# Altium footprint library custom-case.PcbLib: 168 footprints (part 4 of 11)
Each footprint in its own frame and in the unit in brackets; x right, y up, seen from the top. Pads: shape width x height; smd on the part's side, far side on the other; paste and mask are expansions set on the pad; w line width, h text height; cw(c..) or ccw(c..) is an arc to the next point about the centre after c.
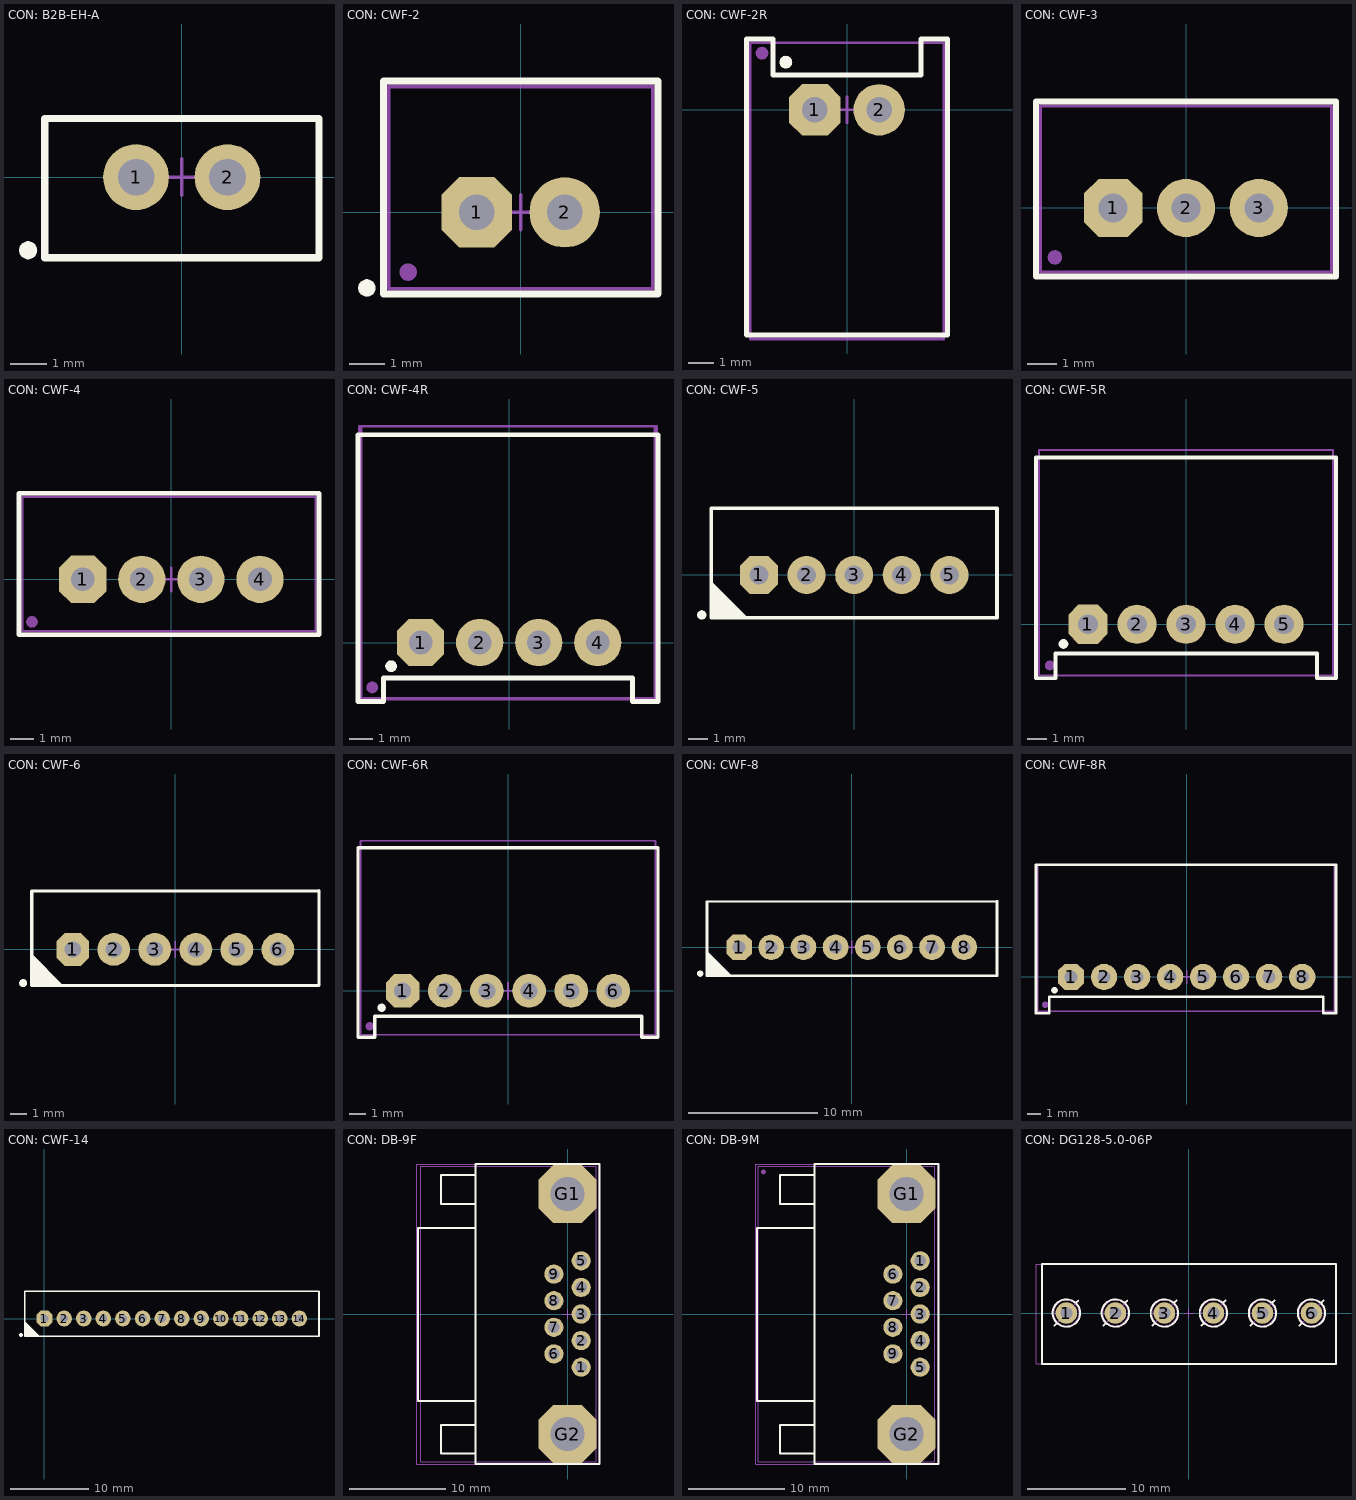
[diagram p3: the footprints below, top view; thin cyan lines are the x and y axes]

## CON: B2B-EH-A [mm]
pads (3):
  round 1.8 hole 1: 1(-1.25,0) 2(1.25,0)
  round 0.5 on Top Overlay: ""(-4.2,-2)
Top Overlay:
  lines w0.2: -3.75,-2.2 3.75,-2.2 3.75,1.6 -3.75,1.6 -3.75,-2.2
Top Assy:
  lines w0.1: -3.75,-2.2 3.75,-2.2 3.75,1.6 -3.75,1.6 -3.75,-2.2
Size Area:
  lines w0.1: -0.5,0 0.5,0 ; 0,-0.5 0,0.5 ; -3.75,-2.2 3.75,-2.2 3.75,1.6 -3.75,1.6 -3.75,-2.2
3D body "User Library-B2B-EH-A.STEP": height 6.05, standoff -3.15, extent -3.75,-2.2 3.75,1.6

## CON: CWF-2 [mm]
height 7.7
pads (4):
  oct 2x2 hole 1: 1(-1.25,0)
  round 2 hole 1: 2(1.25,0)
  round 0.5 on Top Overlay: ""(-4.375,-2.15)
  round 0.5 on Mech1: ""(-3.2,-1.7)
Top Overlay:
  lines w0.2: -3.9,-2.325 3.9,-2.325 3.9,3.725 -3.9,3.725 -3.9,-2.325
Top Assy:
  lines w0.1: -3.75,-2.175 -3.75,3.575 3.75,3.575 3.75,-2.175 -3.75,-2.175
Size Area:
  lines w0.1: -0.5,0 0.5,0 ; 0,-0.5 0,0.5 ; -3.9,-2.325 3.9,-2.325 3.9,3.725 -3.9,3.725 -3.9,-2.325
3D body "CWF-2.step": height 7, standoff -3.5, extent -3.75,-2.175 3.75,3.575

## CON: CWF-2R [mm]
height 7.7
pads (4):
  oct 2x2 hole 1: 1(-1.25,0)
  round 2 hole 1: 2(1.25,0)
  round 0.5 on Mech1: ""(-3.3,2.2)
  round 0.5 on Top Overlay: ""(-2.375,1.85)
Top Overlay:
  lines w0.2: -3.9,-8.75 3.9,-8.75 3.9,2.75 2.875,2.75 2.875,1.35 -2.875,1.35 -2.875,2.75 -3.9,2.75 -3.9,-8.75
Top Assy:
  lines w0.1: -3.75,-8.9 -3.75,2.6 3.75,2.6 3.75,-8.9 -3.75,-8.9
Size Area:
  lines w0.1: -0.5,0 0.5,0 ; 0,-0.5 0,0.5 ; -3.9,-8.75 -3.9,2.75 -2.875,2.75 -2.875,1.35 2.875,1.35 2.875,2.75 3.9,2.75 3.9,-8.75 -3.9,-8.75
3D body "User Library-DS1069-2 CWF-2R.STEP": height 5.85, standoff -3.4, extent -3.75,-8.9 3.75,2.6

## CON: CWF-3 [mm]
height 7.7
pads (4):
  oct 2x2 hole 1: 1(-2.5,0)
  round 2 hole 1: 2(0,0) 3(2.5,0)
  round 0.5 on Mech1: ""(-4.5,-1.7)
Top Overlay:
  lines w0.2: -5.15,-2.35 5.15,-2.35 5.15,3.65 -5.15,3.65 -5.15,-2.35
Top Assy:
  lines w0.1: -5,-2.2 -5,3.5 5,3.5 5,-2.2 -5,-2.2
Size Area:
  lines w0.1: -0.5,0 0.5,0 ; 0,-0.5 0,0.5 ; -5.15,-2.35 5.15,-2.35 5.15,3.65 -5.15,3.65 -5.15,-2.35
3D body "CWF-3.step": height 7, standoff -3.5, extent -5,-2.2 5,3.55

## CON: CWF-4 [mm]
height 7.7
pads (5):
  oct 2x2 hole 1: 1(-3.75,0)
  round 2 hole 1: 2(-1.25,0) 3(1.25,0) 4(3.75,0)
  round 0.5 on Mech1: ""(-5.9,-1.8)
Top Overlay:
  lines w0.2: -6.45,-2.35 -6.45,3.65 6.25,3.65 6.25,-2.35 -6.45,-2.35
Top Assy:
  lines w0.1: -6.3,-2.2 6.1,-2.2 6.1,3.5 -6.3,3.5 -6.3,-2.2
Size Area:
  lines w0.1: -0.5,0 0.5,0 ; 0,-0.5 0,0.5 ; -6.45,-2.35 -6.45,3.65 6.25,3.65 6.25,-2.35 -6.45,-2.35
3D body "CWF-4.step": height 7, standoff -3.5, extent -6.267,-2.194 6.133,3.556

## CON: CWF-4R [mm]
pads (6):
  oct 2x2 hole 1: 1(-3.75,0)
  round 2 hole 1: 2(-1.25,0) 3(1.25,0) 4(3.75,0)
  round 0.5 on Mech1: ""(-5.8,-1.9)
  round 0.5 on Top Overlay: ""(-5,-1)
Top Overlay:
  lines w0.2: -6.4,-2.5 -6.4,8.8 6.3,8.8 6.3,-2.5 5.225,-2.5 5.225,-1.5 -5.325,-1.5 -5.325,-2.5 -6.4,-2.5
Top Assy:
  lines w0.1: -6.25,-2.35 -6.25,9.15 6.15,9.15 6.15,-2.35 -6.25,-2.35
Size Area:
  lines w0.1: -6.35,-2.4 -6.35,9.15 6.25,9.15 6.25,-2.4 -6.35,-2.4
3D body "User Library-DS1069-4 MR TypeA.STEP": height 5.8, standoff -3.35, extent -6.25,-2.35 6.15,9.15

## CON: CWF-5 [mm]
pads (6):
  oct 2x2 hole 1: 1(-5,0)
  round 2 hole 1: 2(-2.5,0) 3(0,0) 4(2.5,0) 5(5,0)
  round 0.5 on Top Overlay: ""(-8,-2.1)
Top Overlay:
  region: -5.575,-2.25 -7.5,-0.325 -7.5,-2.25
  lines w0.2: -7.5,-2.25 -7.5,3.5 7.5,3.5 7.5,-2.25 -7.5,-2.25
Top Assy:
  lines w0.1: -7.5,-2.25 -7.5,3.5 7.5,3.5 7.5,-2.25 -7.5,-2.25
Size Area:
  lines w0.1: -0.5,0 0.5,0 ; 0,-0.5 0,0.5 ; -7.5,-2.25 -7.5,3.5 7.5,3.5 7.5,-2.25 -7.5,-2.25
3D body "User Library-CWF-5.STEP": height 7.05, standoff -3.45, extent -7.5,-2.25 7.5,3.5

## CON: CWF-5R [mm]
pads (7):
  oct 2x2 hole 1: 1(-5,0)
  round 2 hole 1: 2(-2.5,0) 3(0,0) 4(2.5,0) 5(5,0)
  round 0.5 on Mech1: ""(-6.95,-2.1)
  round 0.5 on Top Overlay: ""(-6.25,-1)
Top Overlay:
  lines w0.2: -7.65,-2.75 -7.65,8.5 7.65,8.5 7.65,-2.75 6.675,-2.75 6.675,-1.5 -6.65,-1.5 -6.65,-2.75 -7.65,-2.75
Top Assy:
  lines w0.1: -7.5,-2.6 7.5,-2.6 7.5,8.9 -7.5,8.9 -7.5,-2.6
Size Area:
  lines w0.1: -0.5,0 0.5,0 ; 0,-0.5 0,0.5 ; -7.5,-2.6 -7.5,8.9 7.5,8.9 7.5,-2.6 -7.5,-2.6
3D body "User Library-DS1069-5 CWF-5R.STEP": height 5.75, standoff -3.5, extent -7.5,-2.62 7.5,8.88

## CON: CWF-6 [mm]
pads (7):
  oct 2x2 hole 1: 1(-6.25,0)
  round 2 hole 1: 2(-3.75,0) 3(-1.25,0) 4(1.25,0) 5(3.75,0) 6(6.25,0)
  round 0.5 on Top Overlay: ""(-9.275,-2.05)
Top Overlay:
  region: -6.825,-2.2 -8.75,-0.275 -8.75,-2.2
  lines w0.2: -8.75,-2.2 -8.75,3.55 8.75,3.575 8.75,-2.2 -8.75,-2.2
Top Assy:
  lines w0.1: -8.75,-2.2 -8.75,3.55 8.75,3.575 8.75,-2.2 -8.75,-2.2
Size Area:
  lines w0.1: -0.5,0 0.5,0 ; 0,-0.5 0,0.5 ; -8.75,-2.2 -8.75,3.55 8.75,3.575 8.75,-2.2 -8.75,-2.2
3D body "User Library-CWF-6.STEP": height 7.05, standoff -3.45, extent -8.75,-2.2 8.75,3.55

## CON: CWF-6R [mm]
pads (8):
  oct 2x2 hole 1: 1(-6.25,0)
  round 2 hole 1: 2(-3.75,0) 3(-1.25,0) 4(1.25,0) 5(3.75,0) 6(6.25,0)
  round 0.5 on Mech1: ""(-8.2,-2.1)
  round 0.5 on Top Overlay: ""(-7.5,-1)
Top Overlay:
  lines w0.2: -8.9,-2.75 -8.9,8.5 8.9,8.5 8.9,-2.75 7.925,-2.75 7.925,-1.5 -7.9,-1.5 -7.9,-2.75 -8.9,-2.75
Top Assy:
  lines w0.1: -8.75,-2.6 8.75,-2.6 8.75,8.9 -8.75,8.9 -8.75,-2.6
Size Area:
  lines w0.1: -0.5,0 0.5,0 ; 0,-0.5 0,0.5 ; -8.75,-2.6 -8.75,8.9 8.75,8.9 8.75,-2.6 -8.75,-2.6
3D body "User Library-DS1069-6 CWF-6R.STEP": height 5.85, standoff -3.4, extent -8.75,-2.6 8.75,8.9

## CON: CWF-8 [mm]
pads (9):
  oct 2x2 hole 1: 1(-8.75,0)
  round 2 hole 1: 2(-6.25,0) 3(-3.75,0) 4(-1.25,0) 5(1.25,0) 6(3.75,0) 7(6.25,0) 8(8.75,0)
  round 0.5 on Top Overlay: ""(-11.775,-2.05)
Top Overlay:
  region: -9.325,-2.2 -11.25,-0.275 -11.25,-2.2
  lines w0.2: -11.25,-2.2 -11.25,3.55 11.3,3.582 11.3,-2.2 -11.25,-2.2
Top Assy:
  lines w0.1: -11.25,-2.2 -11.25,3.55 11.3,3.582 11.3,-2.2 -11.25,-2.2
Size Area:
  lines w0.1: -0.5,0 0.5,0 ; 0,-0.5 0,0.5 ; -11.25,-2.2 -11.25,3.55 11.3,3.582 11.3,-2.2 -11.25,-2.2
3D body "User Library-DS1069-8 CWF-8.STEP": height 7.1, standoff -3.4, extent -11.25,-2.2 11.25,3.55

## CON: CWF-8R [mm]
pads (10):
  oct 2x2 hole 1: 1(-8.75,0)
  round 2 hole 1: 2(-6.25,0) 3(-3.75,0) 4(-1.25,0) 5(1.25,0) 6(3.75,0) 7(6.25,0) 8(8.75,0)
  round 0.5 on Mech1: ""(-10.7,-2.1)
  round 0.5 on Top Overlay: ""(-10,-1)
Top Overlay:
  lines w0.2: -11.4,-2.75 -11.4,8.5 11.312,8.5 11.312,-2.75 10.338,-2.75 10.338,-1.5 -10.4,-1.5 -10.4,-2.75 -11.4,-2.75
Top Assy:
  lines w0.1: -11.25,-2.6 11.162,-2.6 11.162,8.5 -11.25,8.5 -11.25,-2.6
Size Area:
  lines w0.1: -0.5,0 0.5,0 ; 0,-0.5 0,0.5 ; 6.25,-2.6 -11.25,-2.6 -11.25,8.5 11.162,8.5 11.162,-2.6
3D body "User Library-DS1069-8 CWF-8R.STEP": height 5.85, standoff -3.4, extent -11.3,-2.62 11.2,8.88

## CON: CWF-14 [mm]
pads (15):
  oct 2x2 hole 1: 1(0,0)
  round 2 hole 1: 2(2.5,0)
  round 2 hole 1 mask+0.075: 3(5,0) 4(7.5,0) 5(10,0) 6(12.5,0) 7(15,0) 8(17.5,0) 9(20,0) 10(22.5,0) 11(25,0) 12(27.5,0) 13(30,0) 14(32.5,0)
  round 0.5 on Top Overlay: ""(-3,-2.1)
Top Overlay:
  region: -0.575,-2.25 -2.5,-0.325 -2.5,-2.25
  lines w0.2: -2.5,-2.25 35,-2.25 35,3.5 -2.5,3.5 -2.5,-2.25
Top Assy:
  lines w0.1: -2.5,-2.25 35,-2.25 35,3.5 -2.5,3.5 -2.5,-2.25
Size Area:
  lines w0.1: -2.5,-2.25 35,-2.25 35,3.5 -2.5,3.5 -2.5,-2.2
3D body "User Library-DS1069-14 CWF-14.STEP": height 7.05, standoff -3.45, extent -2.5,-2.2 35,3.55

## CON: DB-9F [mm]
height 12
pads (11):
  round 2 hole 1.2: 1(1.42,-5.54) 2(1.42,-2.77) 3(1.42,0) 4(1.42,2.77) 5(1.42,5.54) 6(-1.42,-4.155) 7(-1.42,-1.385) 8(-1.42,1.385) 9(-1.42,4.155)
  oct 6x6 hole 3.5: G1(0,12.5) G2(0,-12.5)
Top Overlay:
  lines w0.2: -9.58,-14.54 -13.185,-14.54 -13.185,-11.54 -9.58,-11.54 ; -9.58,-9.04 -15.58,-9.04 -15.58,8.96 -9.58,8.96 ; -9.58,11.46 -13.185,11.46 -13.185,14.46 -9.58,14.46 ; -9.58,-15.621 3.325,-15.621 3.325,15.621 -9.58,15.621 -9.58,-15.621
Top Assy:
  lines w0.1: -15.302,-15.405 2.998,-15.405 2.998,15.405 -15.302,15.405 -15.302,-15.405
Size Area:
  lines w0.1: -0.5,0 0.5,0 ; 0,-0.5 0,0.5 ; -15.725,-15.621 -15.725,15.621 3.325,15.621 3.325,-15.621 -15.725,-15.621
3D body "DB-9F.step": height 12.52, standoff -4.35, extent -15.302,-15.405 2.998,15.405

## CON: DB-9M [mm]
height 12
pads (12):
  round 2 hole 1.2: 1(1.42,5.54) 2(1.42,2.77) 3(1.42,0) 4(1.42,-2.77) 5(1.42,-5.54) 6(-1.42,4.155) 7(-1.42,1.385) 8(-1.42,-1.385) 9(-1.42,-4.155)
  round 0.5 on Mech1: 31(-14.9,14.8)
  oct 6x6 hole 3.5: G1(0,12.5) G2(0,-12.5)
Top Overlay:
  lines w0.2: -9.58,-14.54 -13.185,-14.54 -13.185,-11.54 -9.58,-11.54 ; -9.58,-9.04 -15.58,-9.04 -15.58,8.96 -9.58,8.96 ; -9.58,11.46 -13.185,11.46 -13.185,14.46 -9.58,14.46 ; -9.58,-15.621 -9.58,15.621 3.325,15.621 3.325,-15.621 -9.58,-15.621
Top Assy:
  lines w0.1: -15.454,-15.4 2.946,-15.4 2.946,15.4 -15.454,15.4 -15.454,-15.4
Size Area:
  lines w0.1: -0.5,0 0.5,0 ; 0,-0.5 0,0.5 ; -15.725,-15.621 3.325,-15.621 3.325,15.621 -15.725,15.621 -15.725,-15.621
3D body "DB-9M.step": height 12.52, standoff -3.9, extent -15.454,-15.4 2.946,15.4

## CON: DG128-5.0-06P [mm]
pads (6):
  round 2.2 hole 1.2: 1(-12.5,0) 2(-7.5,0) 3(-2.5,0) 4(2.5,0) 5(7.5,0) 6(12.5,0)
Top Overlay:
  circle w0.2: c-12.5,0 r1.4
  circle w0.2: c-7.5,0 r1.4
  circle w0.2: c-2.5,0 r1.4
  circle w0.2: c2.5,0 r1.4
  circle w0.2: c7.5,0 r1.4
  circle w0.2: c12.5,0 r1.4
  lines w0.2: -13.709,-1.267 -13.526,-1.075 ; -11.474,1.074 -11.291,1.266 ; -8.709,-1.266 -8.526,-1.074 ; -6.474,1.074 -6.291,1.266 ; -3.709,-1.266 -3.526,-1.074 ; -1.474,1.074 -1.291,1.266 ; 1.291,-1.267 1.474,-1.075 ; 3.526,1.074 3.709,1.266 ; 6.291,-1.266 6.474,-1.074 ; 8.526,1.074 8.709,1.266 ; 11.291,-1.267 11.474,-1.075 ; 13.526,1.074 13.709,1.266 ; -15,-5.2 15,-5.2 15,5 -15,5 -15,-5.2
Top Assy:
  circle w0.1: c-12.5,0 r1.3
  circle w0.1: c-7.5,0 r1.3
  circle w0.1: c-2.5,0 r1.3
  circle w0.1: c2.5,0 r1.3
  circle w0.1: c7.5,0 r1.3
  circle w0.1: c12.5,0 r1.3
  lines w0.1: -13.382,-0.931 -11.618,0.931 ; -8.382,-0.931 -6.618,0.931 ; -3.382,-0.931 -1.618,0.931 ; 1.618,-0.931 3.382,0.931 ; 6.618,-0.931 8.382,0.931 ; 11.618,-0.931 13.382,0.931 ; -15.6,-5.2 15,-5.2 15,5 -15.6,5 -15.6,-5.2
Size Area:
  lines w0.1: -0.5,0 0.5,0 ; 0,-0.5 0,0.5 ; -15.6,-5.2 15,-5.2 15,5 -15.6,5 -15.6,-5.2
3D body "DG128-5.0-06.stp": height 14.1, standoff -3.5, extent -15.6,-5.2 15,5